# Altium footprint library MIC_MP23ABS1TR.PcbLib: 1 footprints
Each footprint in its own frame and in the unit in brackets; x right, y up, seen from the top. Pads: shape width x height; smd on the part's side, far side on the other; paste and mask are expansions set on the pad; w line width, h text height; cw(c..) or ccw(c..) is an arc to the next point about the centre after c.
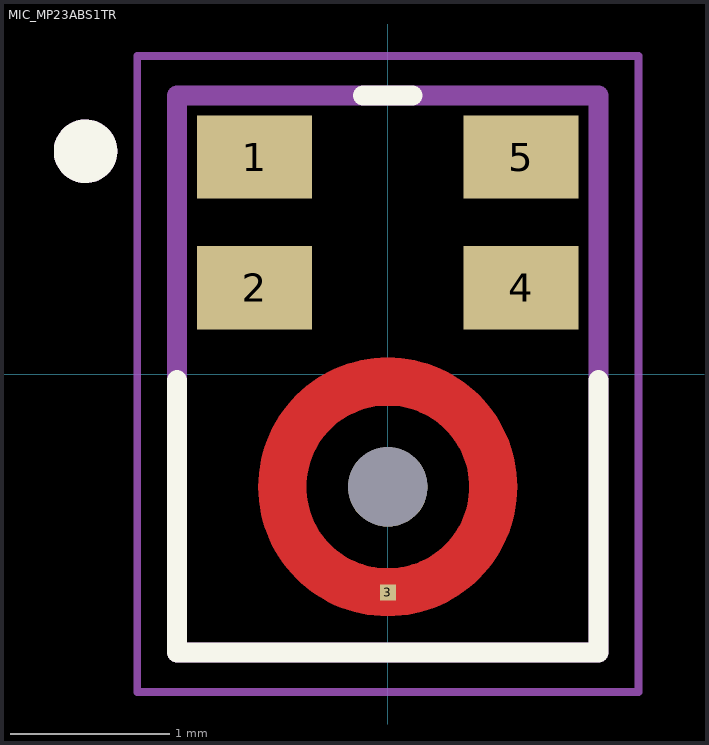
[diagram p0: the footprint, top view; thin cyan lines are the x and y axes]

## MIC_MP23ABS1TR [mm]
height 1.08
pads (6):
  rect 0.725x0.522 smd paste-1: 1(-0.837,1.364) 2(-0.837,0.542) 4(0.837,0.542) 5(0.837,1.364)
  rect 0.1x0.1 smd paste-1 mask+0: 3(0,-1.372)
  round 0.5 hole 0.5 unplated mask+0.662: ""(0,-0.71)
Top Layer:
  region: 241 vertices and 0 holes, not listed, extent -0.813,-1.522 0.813,0.102
Top Overlay:
  circle w0.2: c-1.9,1.4 r0.1
  lines w0.127: -1.325,-0.039 -1.325,-1.75 1.325,-1.75 1.325,-0.039 ; -0.155,1.75 0.155,1.75
Top Paste:
  drawing of 6 lines, arcs and shapes, not listed
Assembly Top:
  circle w0.2: c-1.9,1.4 r0.1
  lines w0.127: -1.325,-1.75 1.325,-1.75 1.325,1.75 -1.325,1.75 -1.325,-1.75
Courtyard Top:
  lines w0.05: -1.575,-2 1.575,-2 1.575,2 -1.575,2 -1.575,-2
3D body "step_temp.STEP": height 1.08, standoff 0, extent -1.325,-1.75 1.325,1.75